# EAGLE library part DF13C-12P-1.25V (library 08_CONECTOR)
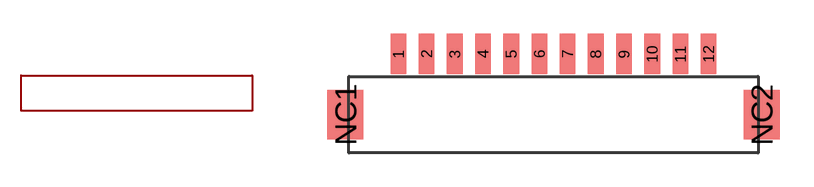
[diagram p9: symbol with the pads of DF13C-12P-1.25V; footprint DF13C-12P-1.25V]

Designator prefix -

## DF13C-12P-1.25V  [DF13C-12P-1.25V]
1  P$1
2  P$2
3  P$3
4  P$4
5  P$5
6  P$6
7  P$7
8  P$8
9  P$9
10  P$10
11  P$11
12  P$12

## Footprint DF13C-12P-1.25V (pad centres in mm)
smd 0.7 x 1.8: 1 -6.875,2.7; 2 -5.625,2.7; 3 -4.375,2.7; 4 -3.125,2.7; 5 -1.875,2.7; 6 -0.625,2.7; 7 0.625,2.7; 8 1.875,2.7; 9 3.125,2.7; 10 4.375,2.7; 11 5.625,2.7; 12 6.875,2.7
smd 1.6 x 2.2: NC1 -9.225,0; NC2 9.225,0